# EAGLE library part TPS7A7200RGTT (library LDO)
IC REG LINEAR POS ADJ 2A 16QFN Manufacturer's datasheet <http://www.ti.com/lit/ds/symlink/tps7a7200.pdf?HQS=TI-null-null-digikeymode-df-pf-null-wwe&ts=1591768073881&ref_url=http://www.ti.com/general/docs/suppproductinfo.tsp?distId%3D10&gotoUrl=http://www.ti.com/lit/gpn/tps7a7200>
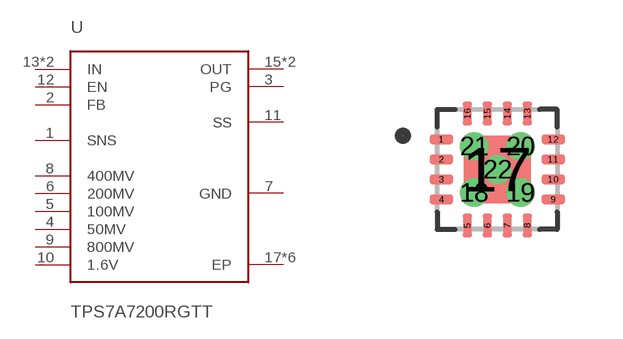
[diagram p0: symbol with the pads of 16-QFN; footprint 16-QFN]

Designator prefix U

## TPS7A7200RGTT (CREATED_BY: PCBLayout.com; DIGIKEY_PARTNO: 296-35673-1-ND; MANUFACTURER: Texas Instruments; MPN: TPS7A7200RGTT; PACKAGE: 16-QFN)  [16-QFN]
1  SNS  in
2  FB  in
3  PG  out
4  50MV  in
5  100MV  in
6  200MV  in
7  GND  pwr
8  400MV  in
9  800MV  in
10  1.6V  in
11  SS  pas
12  EN  in
13  IN  in
14  IN  in
15  OUT  out
16  OUT  out
17  EP  pwr
18  EP  pwr
19  EP  pwr
20  EP  pwr
21  EP  pwr
22  EP  pwr

## Footprint 16-QFN (pad centres in mm)
Quad Flat No-Lead (QFN with Tab), 0.50 mm pitch; square, 4 pin X 4 pin, 3.00 mm L X 3.00 mm W X 1.00 mm H body PCB Libraries Packages
smd 0.6 x 0.24: 1 -1.4,0.75; 2 -1.4,0.25; 3 -1.4,-0.25; 4 -1.4,-0.75; 9 1.4,-0.75; 10 1.4,-0.25; 11 1.4,0.25; 12 1.4,0.75
smd 0.24 x 0.6: 5 -0.75,-1.4; 6 -0.25,-1.4; 7 0.25,-1.4; 8 0.75,-1.4; 13 0.75,1.4; 14 0.25,1.4; 15 -0.25,1.4; 16 -0.75,1.4
smd 1.68 x 1.68: 17 0,0
drill 0.2 pad 0.4: 18 -0.58,-0.58; 19 0.58,-0.58; 20 0.58,0.58; 21 -0.58,0.58; 22 0,0